# Altium schematic symbol library 2016-02-21_13-02-55.SchLib: 18 symbols
Pins are listed as number, name and electrical type; pins without a type are passive.

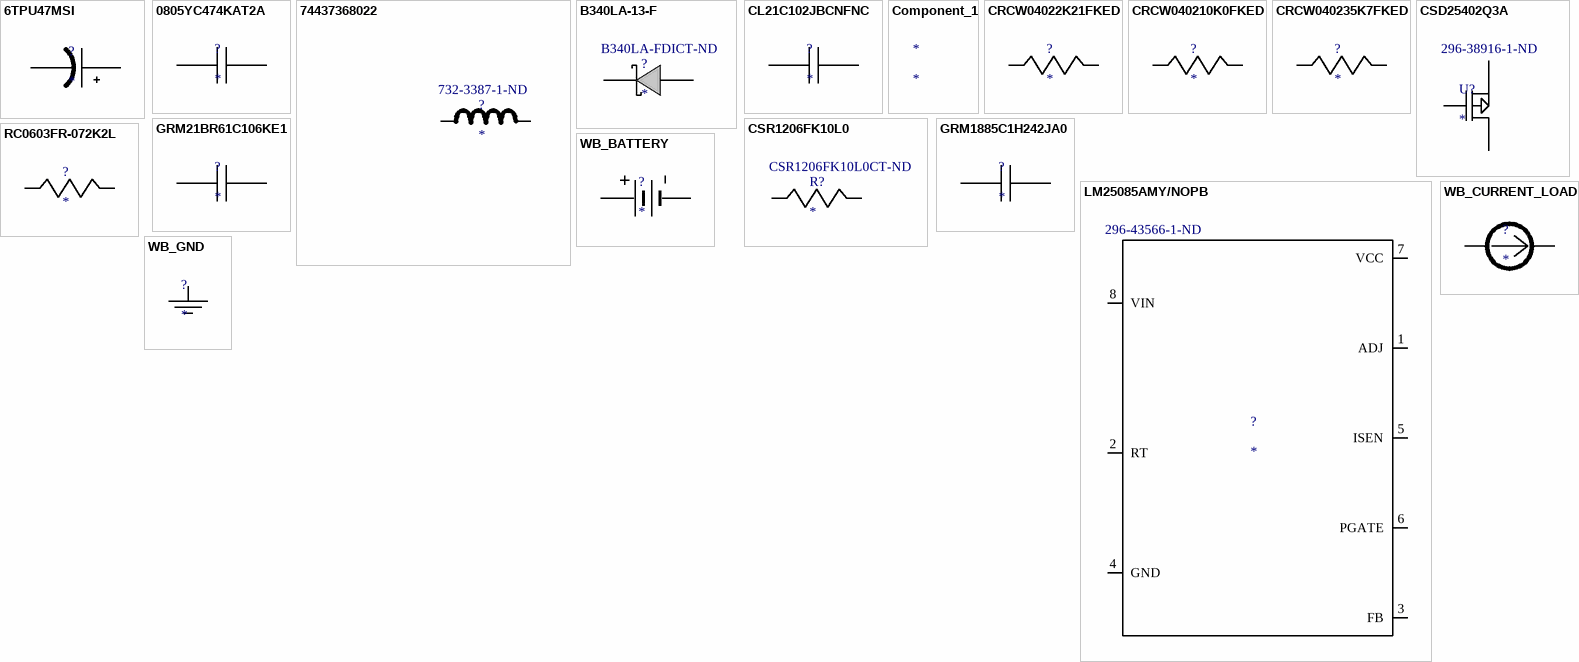
[diagram p0: symbols 6TPU47MSI to WB_GND]

## 6TPU47MSI
designator ?
Imported; Manufacturer_Part_Number: 6TPU47MSI; Vendor: Panasonic; Manufacturer_Name: Panasonic; RefDes: RefDes; TYPE: TYPE; Value: Value
footprint CAPSMT_6_S09
pins: 1 +, 2 -

## 0805YC474KAT2A
designator ?
Imported; Manufacturer_Part_Number: 0805YC474KAT2A; Vendor: AVX; Manufacturer_Name: AVX; RefDes: RefDes; TYPE: TYPE; Value: Value
footprint 0805
pins: 1, 2

## 74437368022
designator ?  Supplier Part Number 1: 732-3387-1-ND
Imported; Manufacturer_Part_Number: 74437368022; Manufacturer: Wurth Elektronik; Vendor: Wurth Elektronik eiSos; PACKAGE_DESIGNATOR: IND_WE-LHMI-SM; Manufacturer_Name: Wurth Elektronik; RefDes: RefDes; TYPE: TYPE; Value: Value; Supplier 1: Digi-Key
footprint IND_WE-LHMI-SM
pins: 1, 2

## B340LA-13-F
designator ?  Supplier Part Number 1: B340LA-FDICT-ND
Imported; Manufacturer_Part_Number: B340LA-13-F; Vendor: Diodes Inc.; Manufacturer_Name: Diodes Inc.; RefDes: RefDes; Type: Type; Value: Value; Supplier 1: Digi-Key
footprint SMA
pins: 1 K, 2 A

## CL21C102JBCNFNC
designator ?
Imported; Manufacturer_Part_Number: CL21C102JBCNFNC; Vendor: Samsung Electro-Mechanics; Manufacturer_Name: Samsung Electro-Mechanics; RefDes: RefDes; TYPE: TYPE; Value: Value
footprint 0805
pins: 1, 2

## Component_1
designator *

## CRCW04022K21FKED
designator ?
Imported; Manufacturer_Part_Number: CRCW04022K21FKED; Vendor: Vishay-Dale; Manufacturer_Name: Vishay-Dale; RefDes: RefDes; TYPE: TYPE; Value: Value
footprint 0402
pins: 1, 2

## CRCW040210K0FKED
designator ?
Imported; Manufacturer_Part_Number: CRCW040210K0FKED; Vendor: Vishay-Dale; Manufacturer_Name: Vishay-Dale; RefDes: RefDes; TYPE: TYPE; Value: Value
footprint 0402
pins: 1, 2

## CRCW040235K7FKED
designator ?
Imported; Manufacturer_Part_Number: CRCW040235K7FKED; Vendor: Vishay-Dale; Manufacturer_Name: Vishay-Dale; RefDes: RefDes; TYPE: TYPE; Value: Value
footprint 0402
pins: 1, 2

## CSD25402Q3A
designator U?  Supplier Part Number 1: 296-38916-1-ND
Imported; PartNumber: CSD25402Q3A; Manufacturer: Texas Instruments; CompType: MOSFET; ChType: P; Value: -20V; VdsMax_V: -20; Value1: 0.0077 ohm; Rdson45_ohm: 0.0077; Value2: 7.5 nC; QgTyp_nC: 7.5; Vgs_V: 12; IdsMax_A: -15; PIN_COUNT: 9; PackageReference: SON 3.3x3.3mm; RoHS: Y; MountType: SMT; Published: 2008-06-19; LatestRevisionNote: Added parts.; RefDes: RefDes; TYPE: TYPE; Value: Value; Manufacturer_Part_Number: CSD25402Q3A; Manufacturer_Name: Texas Instruments; Supplier 1: Digi-Key
footprint TRANS_NEXFET_Q3A
pins: 1 Drain, 2 Drain, 3 Drain, 4 Gate, 5 Source, 6 Source, 7 Source, 8 Source, 9 Source

## CSR1206FK10L0
designator R?  Supplier Part Number 1: CSR1206FK10L0CT-ND
Imported; Manufacturer_Part_Number: CSR1206FK10L0; Vendor: Stackpole Electronics Inc; Manufacturer_Name: Stackpole Electronics Inc; RefDes: RefDes; TYPE: TYPE; Value: Value; Supplier 1: Digi-Key
footprint 1206
pins: 1, 2

## GRM21BR61C106KE1
designator ?
Imported; Manufacturer_Part_Number: GRM21BR61C106KE15L; Vendor: MuRata; Manufacturer_Name: MuRata; RefDes: RefDes; TYPE: TYPE; Value: Value
footprint 0805
pins: 1, 2

## GRM1885C1H242JA0
designator ?
Imported; Manufacturer_Part_Number: GRM1885C1H242JA01D; Vendor: MuRata; Manufacturer_Name: MuRata; RefDes: RefDes; TYPE: TYPE; Value: Value
footprint 0603
pins: 1, 2

## LM25085AMY/NOPB
designator ?  Supplier Part Number 1: 296-43566-1-ND
Imported; Manufacturer_Part_Number: LM5085MY/NOPB; Vendor: Texas Instruments; Manufacturer_Name: Texas Instruments; RefDes: RefDes; TYPE: TYPE; Value: Value; Supplier 1: Digi-Key
footprint MUY08A
pins: 1 ADJ, 2 RT, 3 FB, 4 GND, 5 ISEN, 6 PGATE, 7 VCC, 8 VIN, 9 GND

## RC0603FR-072K2L
designator ?
Imported; Manufacturer_Part_Number: RC0603FR-072K2L; Vendor: Yageo America; Manufacturer_Name: Yageo America; RefDes: RefDes; TYPE: TYPE; Value: Value
footprint 0603
pins: 1, 2

## WB_BATTERY
designator ?
Imported; Manufacturer_Part_Number: WB_BATTERY; PowerPortType: POWER_GROUND; Value: Value; Manufacturer_Name: WB_BATTERY; RefDes: RefDes; TYPE: TYPE
pins: 1 +, 2 -

## WB_CURRENT_LOAD
designator ?
Imported; Manufacturer_Part_Number: WB_CURRENT_LOAD; PowerPortType: POWER_GROUND; Value: Value; Manufacturer_Name: WB_CURRENT_LOAD; RefDes: RefDes; TYPE: TYPE
pins: 1 +, 2 -

## WB_GND
designator ?
Imported; Manufacturer_Part_Number: WB_GND; PowerPortType: POWER_GROUND; Value: Value; Manufacturer_Name: WB_GND; RefDes: RefDes; TYPE: TYPE
pins: 1